# EAGLE library part ADXL335 (library rpoddar)
The ADXL335 is a small, thin, low power, complete 3-axis accelerometer with signal conditioned voltage outputs. The product measures acceleration with a minimum full-scale range of ±3 g. It can measure the static acceleration of gravity in tilt-sensing applications, as well as dynamic acceleration resulting from motion, shock, or vibration. The user selects the bandwidth of the accelerometer using the CX, CY, and CZ capacitors at the XOUT, YOUT, and ZOUT pins. Bandwidths can be selected to suit the application, with a range of 0.5 Hz to 1600 Hz for the X and Y axes, and a range of 0.5 Hz to 550 Hz for the Z axi
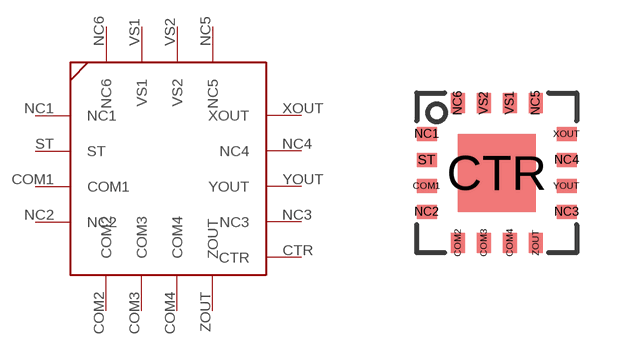
[diagram p0: symbol with the pads of ADXL335; footprint ADXL335]

Designator prefix -

## ADXL335  [ADXL335]
COM1  COM1
COM2  COM2
COM3  COM3
COM4  COM4
CTR  CTR
NC1  NC1
NC2  NC2
NC3  NC3
NC4  NC4
NC5  NC5
NC6  NC6
ST  ST
VS1  VS1
VS2  VS2
XOUT  XOUT
YOUT  YOUT
ZOUT  ZOUT

## Footprint ADXL335 (pad centres in mm)
smd 0.5 x 0.35: COM1 -1.75,-0.325; NC1 -1.75,0.975; NC2 -1.75,-0.975; NC3 1.75,-0.975; NC4 1.75,0.325; ST -1.75,0.325; XOUT 1.75,0.975; YOUT 1.75,-0.325
smd 0.35 x 0.5: COM2 -0.975,-1.75; COM3 -0.325,-1.75; COM4 0.325,-1.75; NC5 0.975,1.75; NC6 -0.975,1.75; VS1 0.325,1.75; VS2 -0.325,1.75; ZOUT 0.975,-1.75
smd 1.95 x 1.95: CTR 0,0